# EAGLE library part OPA69* (library NewSDR)
Texas Instruments Ultra-Wideband, Fixed Gain Video Buffer Amplifier with Disable
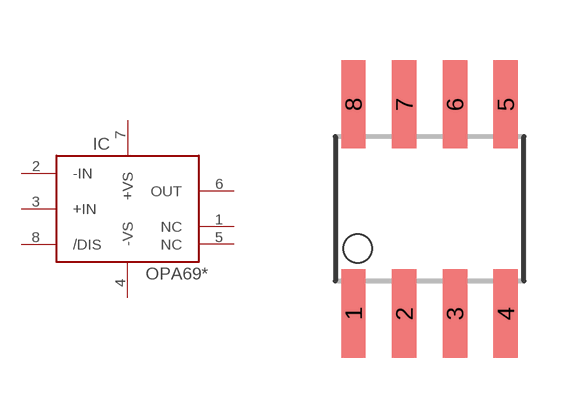
[diagram p60: symbol with the pads of SO8; footprint SO8]

Designator prefix IC

## OPA692ID, OPA693ID  [SO8]
1  NC  nc
2  -IN  in
3  +IN  in
4  -VS  pwr
5  NC  nc
6  OUT  out
7  +VS  pwr
8  /DIS  in

## Footprint SO8 (pad centres in mm)
smd 0.61 x 2.21: 1 -1.905,-2.616; 2 -0.635,-2.616; 3 0.635,-2.616; 4 1.905,-2.616; 5 1.905,2.616; 6 0.635,2.616; 7 -0.635,2.616; 8 -1.905,2.616